# Altium schematic symbol library FlexV1.SchLib: 43 symbols (part 1 of 2)
Pins are listed as number, name and electrical type; pins without a type are passive.

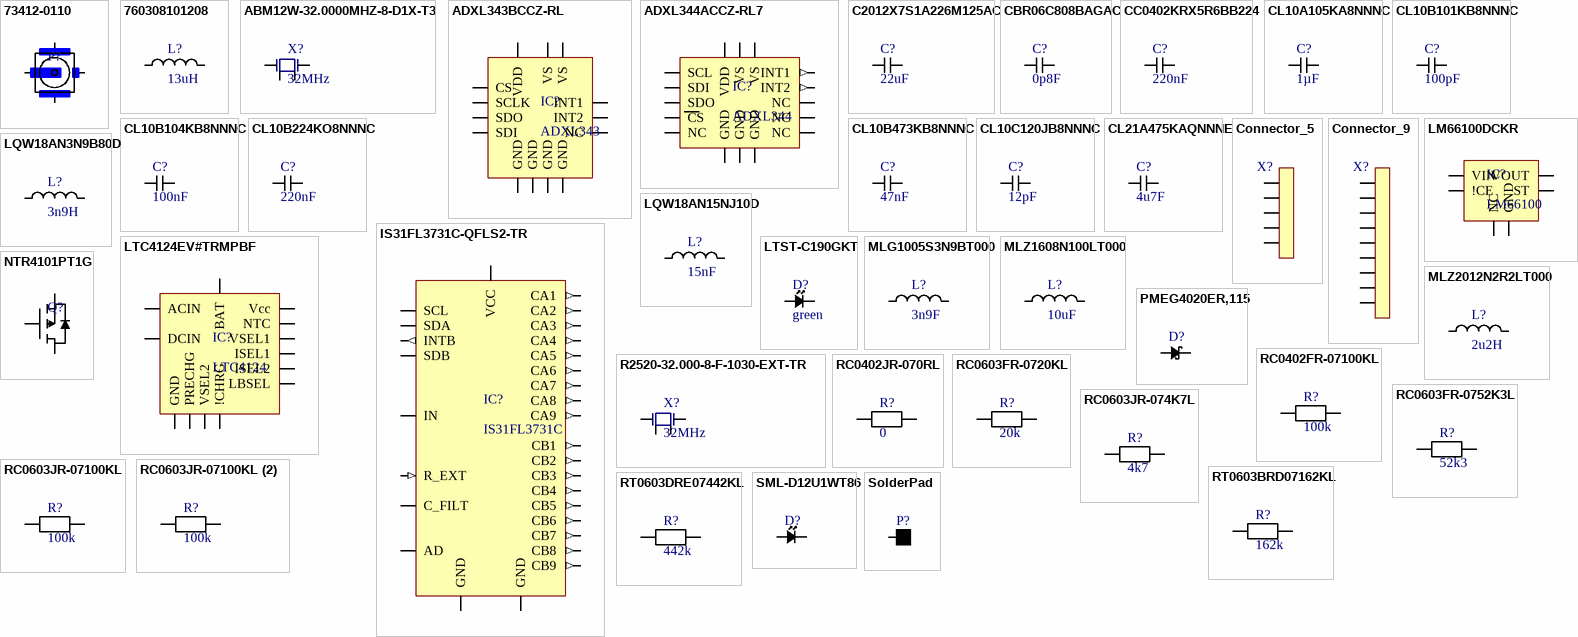
[diagram p0: symbols 73412-0110 to SolderPad]

## 73412-0110
designator P?  (value not drawn)
MOLEX   73412-0110   RF COAXIAL, MICROCOAXIAL, JACK, 50OHM; Body Material: Polymer,Liquid Crystal Polymer; Body Plating: Gold; Impedance: 50R; Voltage Rating: 60V; Frequency: 6GHz; Gender: Female; Mating Cycles: 30; Insulation Resistance: 500MR; Polarity: Standard; Manufacturer: Molex; Manufacturer Part Number: 73412-0110; RoHS: Yes; Category: RF / Coaxial Connectors; Stock 1: 79788; Pricing 1: 1=0,77000, 10=0,72200, 25=0,64960, 50=0,57740, 100=0,55330, 250=0,50520, 500=0,48114, 1000=0,39694, 2500=0,36086 (USD); Mount: Surface Mount,Through Hole,PCB; Contact Material: Bronze,Brass; Contact Plating: Gold; Material: Bronze; Min Operating Temperature: -40°C; Max Operating Temperature: 90°C; Package Quantity: 5000; Packaging: Tape and Reel; Max Frequency: 6GHz; Termination: Solder; Connector Type: Coaxial; Voltage Rating (AC): 60V; Orientation: Straight; Radiation Hardening: No; REACH SVHC: Unknown; Halogen Free: Low Halogen; Lead Free: Lead Free; ComponentLink1URL: https://datasheet.ciiva.com/30219/250360734120110-rf-coax-nectors-30219809.pdf?src-supplier=Onlinecomponents.com; ComponentLink1Description: https://datasheet.ciiva.com/30219/250360734120110-rf-coax-nectors-30219809.pdf?src-supplier=Onlinecomponents.com; ComponentLink2URL: https://datasheet.ciiva.com/16653/0734120110-rf-coax-connectors-16653186.pdf?src-supplier=Avnet+Europe; ComponentLink2Description: https://datasheet.ciiva.com/16653/0734120110-rf-coax-connectors-16653186.pdf?src-supplier=Avnet+Europe; ComponentLink3URL: https://datasheet.ciiva.com/11762/0900766b80dfdeb4-11762356.pdf?src-supplier=RSComponents; ComponentLink3Description: https://datasheet.ciiva.com/11762/0900766b80dfdeb4-11762356.pdf?src-supplier=RSComponents; ComponentLink4URL: https://datasheet.ciiva.com/22773/1841262-22773140.pdf?src-supplier=Farnell; ComponentLink4Description: https://datasheet.ciiva.com/22773/1841262-22773140.pdf?src-supplier=Farnell; ComponentLink5URL: https://datasheet.ciiva.com/4600/0734120110-rf-coax-connectors-173239-4600647.pdf?src-supplier=Mouser; ComponentLink5Description: https://datasheet.ciiva.com/4600/0734120110-rf-coax-connectors-173239-4600647.pdf?src-supplier=Mouser; ComponentLink6URL: https://datasheet.ciiva.com/16081/1387750734120110-rf-coax-nectors-16081145.pdf?src-supplier=Onlinecomponents.com; ComponentLink6Description: https://datasheet.ciiva.com/16081/1387750734120110-rf-coax-nectors-16081145.pdf?src-supplier=Onlinecomponents.com; ComponentLink7URL: https://datasheet.ciiva.com/46384/1808577-46384459.pdf?src-supplier=Element14; ComponentLink7Description: https://datasheet.ciiva.com/46384/1808577-46384459.pdf?src-supplier=Element14; ComponentLink8URL: https://datasheet.ciiva.com/9419/0734120110-rf-coax-connectors-9419357.pdf?src-supplier=Avnet; ComponentLink8Description: https://datasheet.ciiva.com/9419/0734120110-rf-coax-connectors-9419357.pdf?src-supplier=Avnet; Supplier Part Number 1: WM5587CT-ND; Supplier 1: Digi-Key
footprint UFL
pins: 1 Vout (power), 2 Vout (power), 3 Vout (power), 4 Vout (power)

## 760308101208
designator L?, comment 13uH
WURTH ELEKTRONIK - 760308101208 - WIRELESS POWER CHARGING COIL, 13UH, 10%; Manufacturer: Wurth Electronics; Logic Function: Receiver; Current Rating: 800mA; Saturation Current: 2A; DC Resistance (DCR): 400mR; Self Resonant Frequency: 26MHz; Resistance: 0.5R; Q Factor: 17; Supplier 1: Digi-Key; Manufacturer Part Number: 760308101208; RoHS: Yes; Stock 1: 128; Pricing 1: 1=9,86000, 50=9,31800, 100=7,88500, 250=6,81004, 500=5,73402 (USD); Min Operating Temperature: -20°C; Max Operating Temperature: 105°C; Inductance: 13uH; Tolerance: 10%; Inductance Tolerance: 10%; Packaging: Bulk; Package Quantity: 1080; Diameter: 10mm; Length: 0.39inch; Height: 0.07inch; Width: 1.68mm; REACH SVHC: Unknown; ComponentLink1URL: http://www.farnell.com/datasheets/2061864.pdf?src-supplier=Farnell; ComponentLink1Description: http://www.farnell.com/datasheets/2061864.pdf?src-supplier=Farnell; ComponentLink2URL: http://www.mouser.com/ds/2/445/760308101208-516443.pdf?src-supplier=Mouser; ComponentLink2Description: http://www.mouser.com/ds/2/445/760308101208-516443.pdf?src-supplier=Mouser; ComponentLink3URL: http://www.farnell.com/datasheets/1880947.pdf?src-supplier=Element14; ComponentLink3Description: http://www.farnell.com/datasheets/1880947.pdf?src-supplier=Element14; Supplier Part Number 1: 732-6205-ND
footprint ChargeInductorPads
pins: 1 X, 2 X

## ABM12W-32.0000MHZ-8-D1X-T3
designator X?, comment 32MHz
Iot Optimized 32MHZ 8PF Crystal; Manufacturer: Abracon; Manufacturer Part Number: ABM12W-32.0000MHZ-8-D1X-T3; Supplier 1: Digi-Key; RoHS: No; Stock 1: 1313; Pricing 1: 1=1,14000, 10=1,01200, 50=0,94600, 100=0,83600, 500=0,79200, 1000=0,66000 (USD); Supplier Part Number 1: 535-13978-1-ND
footprint ABM12W-32.0000MHZ-8-D1X-T3
pins: 1 HOT, 2 GND, 3 HOT, 4 GND

## ADXL343BCCZ-RL
designator IC?, comment ADXL343
ACCEL 2-16G I2C/SPI 14LGA; Manufacturer: Analog Devices; Manufacturer Part Number: ADXL343BCCZ-RL; Max Supply Voltage: 3.6V; Min Supply Voltage: 2V; Nominal Supply Current: 140uA; Bandwidth: 0.05Hz; -3db Bandwidth: 320Hz; Output Type: Digital; Axis: X, Y, Z; Sensitivity: 256LSB/g; Supplier 1: Digi-Key; RoHS: Yes; Category: Sensors; Stock 1: 1661; Pricing 1: 1=3,50000, 10=3,14200, 25=2,97000, 100=2,57400, 500=2,19120, 1000=1,91400 (USD); Case/Package: LGA; Number of Pins: 14; Contact Plating: Tin,Matte; Min Operating Temperature: -40°C; Max Operating Temperature: 85°C; Package Quantity: 5000; Packaging: Tape and Reel; Lead Free: Contains Lead; ComponentLink1URL: https://datasheet.ciiva.com/6484/adxl343-6484390.pdf?src-supplier=Digi-Key; ComponentLink1Description: https://datasheet.ciiva.com/6484/adxl343-6484390.pdf?src-supplier=Digi-Key; ComponentLink2URL: https://datasheet.ciiva.com/16638/adxl343-16638169.pdf?src-supplier=Avnet+Europe; ComponentLink2Description: https://datasheet.ciiva.com/16638/adxl343-16638169.pdf?src-supplier=Avnet+Europe; Supplier Part Number 1: ADXL343BCCZ-RLCT-ND
footprint ADXL343
pins: 1 VDD (power) "Digital Interface Supply Voltage.", 2 GND (power) "This pin must be connected to ground.", 3 VS "Reserved. This pin must be connected to VS or left open.", 4 GND (power) "This pin must be connected to ground.", 5 GND (power) "This pin must be connected to ground.", 6 VS (power) "Supply Voltage.", 7 CS (io) "Chip Select.", 8 INT1 (io) "Interrupt 1 Output.", 9 INT2 (io) "Interrupt 2 Output.", 10 NC "Not Internally Connected.", 11 GND "Reserved. This pin must be connected to ground or left open.", 12 SDO (io) "Serial Data Output (SPI 4-Wire)/Alternate I2C Address Select (I2C).", 13 SDI (io) "Serial Data (I2C)/Serial Data Input (SPI 4-Wire)/Serial Data Input and Output (SPI 3-Wire).", 14 SCLK (io) "Serial Communications Clock. SCL is the clock for I2C, and SCLK is the clock for SPI."

## ADXL344ACCZ-RL7
designator IC?, comment ADXL344
ANALOG DEVICES - ADXL344ACCZ-RL7 - ACCELEROMETER, 3-AXIS, 16G, 16LGA; Max Supply Voltage: 2.75V; Min Supply Voltage: 1.7V; Nominal Supply Current: 140uA; Bandwidth: 0.05Hz; Interface: I2C,SPI; Output Type: SPI; Axis: X, Y, Z; Sensitivity: 256LSB/g; -3db Bandwidth: 1.6kHz; Resolution: 16b; Supplier 1: Digi-Key; Manufacturer: Analog Devices; Manufacturer Part Number: ADXL344ACCZ-RL7; RoHS: Yes; Category: Sensors; Stock 1: 3864; Pricing 1: 1=3,35000, 10=3,01100, 25=2,84640, 100=2,46680, 500=2,09990 (USD); Mount: Surface Mount; Case/Package: LGA; Number of Pins: 16; Min Operating Temperature: -40°C; Max Operating Temperature: 85°C; Packaging: Tape and Reel; Package Quantity: 1; Operating Supply Current: 140uA; REACH SVHC: No SVHC; Lead Free: Contains Lead; ComponentLink1URL: https://datasheet.ciiva.com/24006/adxl344-246084-24006369.pdf?src-supplier=Mouser; ComponentLink1Description: https://datasheet.ciiva.com/24006/adxl344-246084-24006369.pdf?src-supplier=Mouser; ComponentLink2URL: https://datasheet.ciiva.com/7622/1677405-7622117.pdf?src-supplier=Element14; ComponentLink2Description: https://datasheet.ciiva.com/7622/1677405-7622117.pdf?src-supplier=Element14; ComponentLink3URL: https://datasheet.ciiva.com/6484/adxl344-6484298.pdf?src-supplier=Digi-Key; ComponentLink3Description: https://datasheet.ciiva.com/6484/adxl344-6484298.pdf?src-supplier=Digi-Key; ComponentLink4URL: https://datasheet.ciiva.com/6484/adxl344-6484296.pdf?src-supplier=Digi-Key; ComponentLink4Description: https://datasheet.ciiva.com/6484/adxl344-6484296.pdf?src-supplier=Digi-Key; ComponentLink5URL: https://datasheet.ciiva.com/6483/adxl344-6483803.pdf?src-supplier=Digi-Key; ComponentLink5Description: https://datasheet.ciiva.com/6483/adxl344-6483803.pdf?src-supplier=Digi-Key; ComponentLink6URL: https://datasheet.ciiva.com/16638/adxl344-16638172.pdf?src-supplier=Avnet+Europe; ComponentLink6Description: https://datasheet.ciiva.com/16638/adxl344-16638172.pdf?src-supplier=Avnet+Europe; Supplier Part Number 1: ADXL344ACCZ-RL7CT-ND
footprint ADXL344
pins: 1 VDD (power) "Digital Interface Supply Voltage.", 2 NC "Not Internally Connected.", 3 NC "Not Internally Connected.", 4 SCL "Serial Communications Clock.", 5 NC "Not Internally Connected.", 6 SDI "Serial Data (I2C)/Serial Data Input (SPI 4-Wire)/Serial Data Input and Output (SPI 3-Wire).", 7 SDO "Serial Data Output (SPI 4-Wire)/Alternate I2C Address Select (I2C).", 8 CS "Chip Select.", 9 INT2 (out) "Interrupt 2 Output.", 10 NC "Not Internally Connected.", 11 INT1 (out) "Interrupt 1 Output.", 12 GND (power) "Must be connected to ground.", 13 GND (power) "Must be connected to ground.", 14 VS (power) "Supply Voltage.", 15 VS "Reserved. This pin must be connected to VS.", 16 GND (power) "Must be connected to ground."

## C2012X7S1A226M125AC
designator C?, comment 22uF
TDK - C2012X7S1A226M125AC - SMD Multilayer Ceramic Capacitor, 22 µF, 10 V, 0805 [2012 Metric], ± 20%, X7S, C Series TDK; Voltage Rating (DC): 10V; Supplier 1: Digi-Key; Manufacturer: TDK; Manufacturer Part Number: C2012X7S1A226M125AC; RoHS: Yes; Category: Ceramic Capacitors; Stock 1: 665121; Pricing 1: 1=0,97000, 10=0,74000, 100=0,52940, 500=0,40986, 1000=0,35294 (USD); Mount: Surface Mount; Case/Package: 0805; Weight: 0.000194oz; Case Code (Imperial): 0805; Dielectric Material: Ceramic; Case Code (Metric): 2012; Min Operating Temperature: -55°C; Max Operating Temperature: 125°C; Termination: SMD/SMT; Package Quantity: 2000; Packaging: Tape and Reel; Capacitance: 22uF; Tolerance: 20%; Voltage Rating: 10V; Dielectric: X7S; Length: 0.079inch; Height: 1.25mm; Width: 1.25mm; Thickness: 0.057inch; Lead Free: Lead Free; REACH SVHC: No SVHC; ComponentLink1URL: https://datasheet.ciiva.com/14893/tdkmlcccaprange-14893287.pdf?src-supplier=Digi-Key; ComponentLink1Description: https://datasheet.ciiva.com/14893/tdkmlcccaprange-14893287.pdf?src-supplier=Digi-Key; ComponentLink2URL: https://datasheet.ciiva.com/14893/tdkmlcccaprange-14893288.pdf?src-supplier=Digi-Key; ComponentLink2Description: https://datasheet.ciiva.com/14893/tdkmlcccaprange-14893288.pdf?src-supplier=Digi-Key; ComponentLink3URL: https://datasheet.ciiva.com/14893/tdkmlcccaprange-14893289.pdf?src-supplier=Digi-Key; ComponentLink3Description: https://datasheet.ciiva.com/14893/tdkmlcccaprange-14893289.pdf?src-supplier=Digi-Key; Supplier Part Number 1: 445-14560-1-ND
footprint C0805
pins: 1 (power), 2 (power)

## CBR06C808BAGAC
designator C?, comment 0p8F
CAP CER 0.8PF 250V C0G/NP0 0603; Manufacturer: KEMET; Manufacturer Part Number: CBR06C808BAGAC; Dielectric: C0G; Supplier 1: Digi-Key; RoHS: Yes; Category: Ceramic Capacitors; Stock 1: 2795; Pricing 1: 1=0,54000, 10=0,37200, 100=0,22310, 500=0,16736, 1000=0,14133 (USD); Mount: Surface Mount; Case/Package: 0603; Weight: 7.1E-05oz; Case Code (Metric): 1608; Case Code (Imperial): 0603; Min Operating Temperature: -55°C; Max Operating Temperature: 125°C; Voltage Rating (DC): 250V; Packaging: Tape and Reel; Package Quantity: 1; Capacitance: 0.8pF; Voltage Rating: 250V; Termination: SMD/SMT; Length: 0.063inch; Height: 0.8mm; Width: 0.031inch; Thickness: 0.034inch; ComponentLink1URL: https://datasheet.ciiva.com/6257/kem-c1030-cbr-smd-6257781.pdf?src-supplier=Digi-Key; ComponentLink1Description: https://datasheet.ciiva.com/6257/kem-c1030-cbr-smd-6257781.pdf?src-supplier=Digi-Key; ComponentLink2URL: https://datasheet.ciiva.com/6257/kem-c1030-cbr-smd-6257783.pdf?src-supplier=Digi-Key; ComponentLink2Description: https://datasheet.ciiva.com/6257/kem-c1030-cbr-smd-6257783.pdf?src-supplier=Digi-Key; Supplier Part Number 1: 399-8836-1-ND
footprint CL10B104KB8NNNC
pins: 1, 2

## CC0402KRX5R6BB224
designator C?, comment 220nF
CAP CER 0.22UF 10V X5R 0402; Manufacturer: Yageo; Manufacturer Part Number: CC0402KRX5R6BB224; Dielectric Material: Ceramic; Tolerance: 10%; Supplier 1: Digi-Key; Stock 1: 215238; Pricing 1: 1 = 0,10000, 10 = 0,05700, 100 = 0,02530, 500 = 0,01808, 1000 = 0,01421, 2500 = 0,01292, 5000 = 0,01188 (USD); RoHS: Yes; Mount: Surface Mount; Case/Package: 0402; Weight: 2.3E-05oz; Case Code (Metric): 1005; Case Code (Imperial): 0402; Min Operating Temperature: -55°C; Max Operating Temperature: 85°C; Package Quantity: 10000; Capacitance: 220nF; Voltage Rating: 10V; Packaging: Tape and Reel; Voltage Rating (DC): 10V; Dielectric: X5R; Termination: SMD/SMT; Composition: Ceramic; Length: 1mm; Height: 0.5mm; Width: 0.02inch; Thickness: 0.022inch; Depth: 0.5mm; Radiation Hardening: No; REACH SVHC: Unknown; Lead Free: Lead Free; Halogen Free: Halogen Free; ComponentLink1URL: https://datasheet.ciiva.com/176/mlccorderingcode-176912.pdf?src-supplier=Digi-Key; ComponentLink1Description: https://datasheet.ciiva.com/176/mlccorderingcode-176912.pdf?src-supplier=Digi-Key; ComponentLink2URL: https://datasheet.ciiva.com/176/mlccorderingcode-176913.pdf?src-supplier=Digi-Key; ComponentLink2Description: https://datasheet.ciiva.com/176/mlccorderingcode-176913.pdf?src-supplier=Digi-Key; ComponentLink3URL: https://datasheet.ciiva.com/8033/1525783-8033653.pdf?src-supplier=Element14; ComponentLink3Description: https://datasheet.ciiva.com/8033/1525783-8033653.pdf?src-supplier=Element14; ComponentLink4URL: https://datasheet.ciiva.com/16624/upy-gphc-x5r-4v-to-50v-12-16624733.pdf?src-supplier=Avnet+Europe; ComponentLink4Description: https://datasheet.ciiva.com/16624/upy-gphc-x5r-4v-to-50v-12-16624733.pdf?src-supplier=Avnet+Europe; ComponentLink5URL: https://datasheet.ciiva.com/28450/1359354-28450298.pdf?src-supplier=Element14; ComponentLink5Description: https://datasheet.ciiva.com/28450/1359354-28450298.pdf?src-supplier=Element14; ComponentLink6URL: https://datasheet.ciiva.com/176/mlccorderingcode-176911.pdf?src-supplier=Digi-Key; ComponentLink6Description: https://datasheet.ciiva.com/176/mlccorderingcode-176911.pdf?src-supplier=Digi-Key; Supplier Part Number 1: 311-1421-1-ND
footprint RC0402
pins: 1 (power), 2 (power)

## CL10A105KA8NNNC
designator C?, comment 1µF
Cap Ceramic 1uF 25V X5R 10% Pad SMD 0603 85°C T/R; Manufacturer: Samsung; Manufacturer Part Number: CL10A105KA8NNNC; Supplier 1: Digi-Key; Stock 1: 5127242; Pricing 1: 1 = 0,100000, 10 = 0,041000, 100 = 0,018500, 500 = 0,013200, 1000 = 0,010370 (USD); RoHS: Yes; Mount: Surface Mount; Case/Package: 0603; Case Code (Metric): 1608; Case Code (Imperial): 0603; Material: Ceramic; Contact Plating: Tin; Min Operating Temperature: -55°C; Max Operating Temperature: 85°C; Capacitance: 1uF; Tolerance: 10%; Dielectric: X5R; Voltage: 25V; Voltage Rating (DC): 25V; Packaging: Tape and Reel; Package Quantity: 1; Voltage Rating: 25V; Length: 1.6mm; Height: 0.8mm; Depth: 0.8mm; Width: 0.031inch; Thickness: 0.035inch; Radiation Hardening: No; Lead Free: Lead Free; ComponentLink1URL: https://datasheet.ciiva.com/25801/cl10a105ka8nnnc-25801364.pdf?src-supplier=Digi-Key; ComponentLink1Description: https://datasheet.ciiva.com/25801/cl10a105ka8nnnc-25801364.pdf?src-supplier=Digi-Key; ComponentLink2URL: https://datasheet.ciiva.com/26838/getdatasheetpartid-357530-26838332.pdf?src-supplier=Verical; ComponentLink2Description: https://datasheet.ciiva.com/26838/getdatasheetpartid-357530-26838332.pdf?src-supplier=Verical; ComponentLink3URL: https://datasheet.ciiva.com/29198/458162-da-01-en-vs-kondensator-0603-29198475.pdf?src-supplier=Conrad; ComponentLink3Description: https://datasheet.ciiva.com/29198/458162-da-01-en-vs-kondensator-0603-29198475.pdf?src-supplier=Conrad; Supplier Part Number 1: 1276-1102-1-ND
footprint CL10B104KB8NNNC
pins: 1 (power), 2 (power)

## CL10B101KB8NNNC
designator C?, comment 100pF
CAP CER 100PF 50V X7R 0603; Manufacturer: Samsung; Manufacturer Part Number: CL10B101KB8NNNC; Tolerance: 10%; Supplier 1: Digi-Key; RoHS: Yes; Category: Ceramic Capacitors; Stock 1: 202639; Pricing 1: 1=0,10000, 10=0,05000, 100=0,02240, 500=0,01602, 1000=0,01258 (USD); Mount: Surface Mount; Case/Package: 0603; Case Code (Imperial): 0603; Case Code (Metric): 1608; Min Operating Temperature: -55°C; Max Operating Temperature: 125°C; Dielectric: X7R; Capacitance: 100pF; Packaging: Tape and Reel; Package Quantity: 1; Voltage Rating: 50V; Length: 1.6mm; Height: 0.8mm; Thickness: 0.035inch; Depth: 0.8mm; Width: 0.031inch; Radiation Hardening: No; ComponentLink1URL: https://datasheet.ciiva.com/26920/getdatasheetpartid-690677-26920180.pdf?src-supplier=Verical; ComponentLink1Description: https://datasheet.ciiva.com/26920/getdatasheetpartid-690677-26920180.pdf?src-supplier=Verical; ComponentLink2URL: https://datasheet.ciiva.com/16437/cl05b104kq5nnnc-16437324.pdf?src-supplier=Future+Electronics; ComponentLink2Description: https://datasheet.ciiva.com/16437/cl05b104kq5nnnc-16437324.pdf?src-supplier=Future+Electronics; Supplier Part Number 1: 1276-1909-1-ND
footprint CL10B104KB8NNNC
pins: 1 (power), 2 (power)

## CL10B104KB8NNNC
designator C?, comment 100nF
Capacitor: ceramic; MLCC; 100nF; 50V; X7R; ±10%; SMD; 0603; -55÷125°C; Manufacturer: Samsung; Manufacturer Part Number: CL10B104KB8NNNC; Supplier 1: Digi-Key; Stock 1: 12121642; Pricing 1: 1 = 0,10000, 10 = 0,02800, 100 = 0,01230, 500 = 0,00878, 1000 = 0,00690 (USD); RoHS: Yes; Mount: Surface Mount; Case/Package: 0603; Case Code (Metric): 1608; Case Code (Imperial): 0603; Material: Ceramic; Contact Plating: Tin; Min Operating Temperature: -55°C; Max Operating Temperature: 125°C; Tolerance: 10%; Package Quantity: 1; Packaging: Tape and Reel; Capacitance: 100nF; Dielectric: X7R; Voltage Rating: 50V; Voltage: 50V; Voltage Rating (DC): 50V; Length: 1.6mm; Height: 0.8mm; Width: 0.031inch; Depth: 0.8mm; Thickness: 0.035inch; Radiation Hardening: No; Lead Free: Lead Free; ComponentLink1URL: https://datasheet.ciiva.com/25803/cl10b104kb8nnnc-25803393.pdf?src-supplier=Digi-Key; ComponentLink1Description: https://datasheet.ciiva.com/25803/cl10b104kb8nnnc-25803393.pdf?src-supplier=Digi-Key; ComponentLink2URL: https://datasheet.ciiva.com/26838/getdatasheetpartid-89097-26838411.pdf?src-supplier=Verical; ComponentLink2Description: https://datasheet.ciiva.com/26838/getdatasheetpartid-89097-26838411.pdf?src-supplier=Verical; ComponentLink3URL: https://datasheet.ciiva.com/29198/456651-da-01-en-vs-kondensator-0605-29198839.pdf?src-supplier=Conrad; ComponentLink3Description: https://datasheet.ciiva.com/29198/456651-da-01-en-vs-kondensator-0605-29198839.pdf?src-supplier=Conrad; Supplier Part Number 1: 1276-1000-1-ND
footprint CL10B104KB8NNNC
pins: 1 (power), 2 (power)

## CL10B224KO8NNNC
designator C?, comment 220nF
Capacitor 220 nF 16 VDC PU=4000 ST, CL10B224KO8NNNC, Samsung; Material: Ceramic; Tolerance: 10%; Voltage Rating: 16V; Dielectric: X7R; Supplier 1: Digi-Key; Manufacturer: Samsung; Manufacturer Part Number: CL10B224KO8NNNC; Stock 1: 1412464; Pricing 1: 1 = 0,10000, 10 = 0,04400, 100 = 0,01970, 500 = 0,01410, 1000 = 0,01108 (USD); RoHS: Yes; Mount: Surface Mount; Case/Package: 0603; Case Code (Metric): 1608; Case Code (Imperial): 0603; Contact Plating: Tin; Min Operating Temperature: -55°C; Max Operating Temperature: 125°C; Package Quantity: 1; Packaging: Tape and Reel; Capacitance: 220nF; Voltage: 16V; Voltage Rating (DC): 16V; Length: 1.6mm; Height: 0.8mm; Width: 0.031inch; Thickness: 0.035inch; Depth: 0.8mm; Radiation Hardening: No; Lead Free: Lead Free; ComponentLink1URL: https://datasheet.ciiva.com/15195/getdatasheetpartid-359555-15195740.pdf?src-supplier=Verical; ComponentLink1Description: https://datasheet.ciiva.com/15195/getdatasheetpartid-359555-15195740.pdf?src-supplier=Verical; ComponentLink2URL: https://datasheet.ciiva.com/29198/456449-da-01-en-vs-kondensator-0603-29198983.pdf?src-supplier=Conrad; ComponentLink2Description: https://datasheet.ciiva.com/29198/456449-da-01-en-vs-kondensator-0603-29198983.pdf?src-supplier=Conrad; ComponentLink3URL: https://datasheet.ciiva.com/16426/cl05b104kq5nnnc-16426261.pdf?src-supplier=Future+Electronics; ComponentLink3Description: https://datasheet.ciiva.com/16426/cl05b104kq5nnnc-16426261.pdf?src-supplier=Future+Electronics; ComponentLink4URL: https://datasheet.ciiva.com/26310/mlcc-catalogdownload2013-eng-26310319.pdf?src-supplier=Distrelec; ComponentLink4Description: https://datasheet.ciiva.com/26310/mlcc-catalogdownload2013-eng-26310319.pdf?src-supplier=Distrelec; Supplier Part Number 1: 1276-1112-1-ND
footprint CL10B104KB8NNNC
pins: 1 (power), 2 (power)

## CL10B473KB8NNNC
designator C?, comment 47nF
CAP CER 0.047UF 50V X7R 0603; Manufacturer: Samsung; Manufacturer Part Number: CL10B473KB8NNNC; Material: Ceramic; Dielectric: Y5V; Tolerance: 10%; Supplier 1: Digi-Key; RoHS: Yes; Category: Ceramic Capacitors; Stock 1: 49161; Pricing 1: 1=0,10000, 10=0,04200, 100=0,01860, 500=0,01328, 1000=0,01044 (USD); Mount: Surface Mount; Case/Package: 0603; Contact Plating: Tin; Case Code (Imperial): 0603; Case Code (Metric): 1608; Min Operating Temperature: -55°C; Max Operating Temperature: 125°C; Packaging: Tape and Reel; Package Quantity: 4000; Voltage Rating (DC): 50V; Capacitance: 47nF; Voltage Rating: 50V; Voltage: 50V; Length: 1.6mm; Height: 0.8mm; Thickness: 0.035inch; Depth: 0.8mm; Width: 0.031inch; Radiation Hardening: No; Lead Free: Lead Free; ComponentLink1URL: https://datasheet.ciiva.com/25802/cl10b473kb8nnnc-25802915.pdf?src-supplier=Digi-Key; ComponentLink1Description: https://datasheet.ciiva.com/25802/cl10b473kb8nnnc-25802915.pdf?src-supplier=Digi-Key; ComponentLink2URL: https://datasheet.ciiva.com/15216/getdatasheetpartid-359560-15216232.pdf?src-supplier=Verical; ComponentLink2Description: https://datasheet.ciiva.com/15216/getdatasheetpartid-359560-15216232.pdf?src-supplier=Verical; ComponentLink3URL: https://datasheet.ciiva.com/29198/456947-da-01-en-vs-kondensator-0603-29198896.pdf?src-supplier=Conrad; ComponentLink3Description: https://datasheet.ciiva.com/29198/456947-da-01-en-vs-kondensator-0603-29198896.pdf?src-supplier=Conrad; ComponentLink4URL: https://datasheet.ciiva.com/26310/mlcc-catalogdownload2013-eng-26310327.pdf?src-supplier=Distrelec; ComponentLink4Description: https://datasheet.ciiva.com/26310/mlcc-catalogdownload2013-eng-26310327.pdf?src-supplier=Distrelec; ComponentLink5URL: https://datasheet.ciiva.com/20173/71-0317-20173339.pdf?src-supplier=Rapid+Electronics; ComponentLink5Description: https://datasheet.ciiva.com/20173/71-0317-20173339.pdf?src-supplier=Rapid+Electronics; Supplier Part Number 1: 1276-1063-1-ND
footprint RC0603
pins: 1 (power), 2 (power)

## CL10C120JB8NNNC
designator C?, comment 12pF
Cap Ceramic 12pF 50VDC C0G 5% SMD 0603 Paper T/R; Manufacturer: Samsung; Manufacturer Part Number: CL10C120JB8NNNC; Voltage: 50V; Temperature Coefficient: 300ppm/°C; Supplier 1: Digi-Key; RoHS: Yes; Category: Ceramic Capacitors; Stock 1: 106067; Pricing 1: 1=0,10000, 10=0,04000, 100=0,01780, 500=0,01274, 1000=0,01001 (USD); Mount: Surface Mount; Case/Package: 0603; Case Code (Metric): 1608; Case Code (Imperial): 0603; Material: Ceramic; Contact Plating: Tin; Min Operating Temperature: -55°C; Max Operating Temperature: 125°C; Tolerance: 5%; Capacitance: 12pF; Dielectric: C0G; Voltage Rating (DC): 50V; Voltage Rating: 50V; Package Quantity: 1; Packaging: Tape and Reel; Length: 1.6mm; Height: 0.8mm; Depth: 0.8mm; Width: 0.031inch; Thickness: 0.035inch; Radiation Hardening: No; Lead Free: Lead Free; ComponentLink1URL: https://datasheet.ciiva.com/25803/cl10c120jb8nnnc-25803312.pdf?src-supplier=Digi-Key; ComponentLink1Description: https://datasheet.ciiva.com/25803/cl10c120jb8nnnc-25803312.pdf?src-supplier=Digi-Key; ComponentLink2URL: https://datasheet.ciiva.com/26838/getdatasheetpartid-640658-26838491.pdf?src-supplier=Verical; ComponentLink2Description: https://datasheet.ciiva.com/26838/getdatasheetpartid-640658-26838491.pdf?src-supplier=Verical; ComponentLink3URL: https://datasheet.ciiva.com/29198/457317-da-01-en-vs-kondensator-0603-29198780.pdf?src-supplier=Conrad; ComponentLink3Description: https://datasheet.ciiva.com/29198/457317-da-01-en-vs-kondensator-0603-29198780.pdf?src-supplier=Conrad; Supplier Part Number 1: 1276-1254-1-ND
footprint CL10B104KB8NNNC
pins: 1 (power), 2 (power)

## CL21A475KAQNNNE
designator C?, comment 4u7F
SAMSUNG ELECTRO-MECHANICS - CL21A475KAQNNNE - SMD Multilayer Ceramic Capacitor, 4.7 µF, 25 V, 0805 [2012 Metric], ± 10%, X5R, CL Series; Voltage Rating (DC): 25V; Capacitance: 4.7uF; Supplier 1: Digi-Key; Manufacturer: Samsung; Manufacturer Part Number: CL21A475KAQNNNE; RoHS: Yes; Category: Ceramic Capacitors; Stock 1: 481244; Pricing 1: 1=0,14000, 10=0,10000, 100=0,04680, 500=0,03282, 1000=0,02716 (USD); Mount: Surface Mount; Case/Package: 0805; Case Code (Metric): 2012; Case Code (Imperial): 0805; Min Operating Temperature: -55°C; Max Operating Temperature: 85°C; Dielectric: X5R; Package Quantity: 1; Packaging: Tape and Reel; Tolerance: 10%; Voltage Rating: 25V; Length: 2mm; Height: 1.25mm; Thickness: 0.055inch; Depth: 1.25mm; Width: 0.049inch; Radiation Hardening: No; Lead Free: Lead Free; ComponentLink1URL: https://datasheet.ciiva.com/25798/cl21a475kaqnnne-25798882.pdf?src-supplier=Digi-Key; ComponentLink1Description: https://datasheet.ciiva.com/25798/cl21a475kaqnnne-25798882.pdf?src-supplier=Digi-Key; Supplier Part Number 1: 1276-1244-1-ND
footprint C0805
pins: 1 (power), 2 (power)

## Connector_5
designator X?  (no BOM)
footprint Connector_5
pins: 1, 2, 3, 4, 5

## Connector_9
designator X?  (no BOM)
footprint Connector_9
pins: 1, 2, 3, 4, 5, 6, 7, 8, 9

## IS31FL3731C-QFLS2-TR
designator IC?, comment IS31FL3731C
LED Lighting Drivers Audio Modulated 144 Dot LED Driver; Manufacturer: ISSI; Manufacturer Part Number: IS31FL3731C-QFLS2-TR; Number of Outputs: 18; Max Supply Voltage: 5.5V; Output Current per Channel: 34mA; Frequency: 400kHz; Max Supply Current: 2.17mA; High Level Output Current: 5nA; Dimming: Analog; Supplier 1: Digi-Key; Stock 1: 2653; Pricing 1: 1 = 2,01000, 10 = 1,81700, 25 = 1,62240, 100 = 1,46000, 250 = 1,29780, 500 = 1,13558, 1000 = 0,94091 (USD); RoHS: Yes; Mount: Surface Mount; Case/Package: QFN; Number of Pins: 28; Weight: 0.002497oz; Min Operating Temperature: -40°C; Max Operating Temperature: 85°C; Packaging: Tape and Reel; Output Current: 34mA; Low Level Output Current: 5nA; Package Quantity: 2500; ComponentLink1URL: http://www.mouser.com/ds/2/198/31FL3731-258525.pdf?src-supplier=Mouser; ComponentLink1Description: http://www.mouser.com/ds/2/198/31FL3731-258525.pdf?src-supplier=Mouser; ComponentLink2URL: http://www.issi.com/WW/pdf/Analog_Part_Decoder.pdf?src-supplier=Digi-Key; ComponentLink2Description: http://www.issi.com/WW/pdf/Analog_Part_Decoder.pdf?src-supplier=Digi-Key; Supplier Part Number 1: 706-1219-1-ND
footprint IS31FL3731 (QFN, 28-Leads, Body 4,00x4,00mm, Pitch 0,40mm, Thermal Pad 2,28x2,28mm, IPC Medium Density)
pins: 1 CA9 (out) "LED matrix A current output/input port.", 2 VCC (power) "Power supply.", 3 SDB (io) "Shutdown the chip when pull to low.", 4 INTB (out) "Interrupt output. Active low.", 5 GND (power) "Ground.", 6 R_EXT (in) "20kΩ resistance to confirm the LED current.", 7 CB1 (out) "LED matrix B current output/input port.", 8 CB2 (out) "LED matrix B current output/input port.", 9 CB3 (out) "LED matrix B current output/input port.", 10 CB4 (out) "LED matrix B current output/input port.", 11 CB5 (out) "LED matrix B current output/input port.", 12 CB6 (out) "LED matrix B current output/input port.", 13 CB7 (out) "LED matrix B current output/input port.", 14 CB8 (out) "LED matrix B current output/input port.", 15 CB9 (out) "LED matrix B current output/input port.", 16 C_FILT "Capacitor used for audio.", 17 IN "Audio input.", 18 AD "I2C address setting.", 19 SDA "I2C compatible serial data.", 20 SCL "I2C compatible serial clock.", 21 CA1 (out) "LED matrix A current output/input port.", 22 CA2 (out) "LED matrix A current output/input port.", 23 CA3 (out) "LED matrix A current output/input port.", 24 CA4 (out) "LED matrix A current output/input port.", 25 CA5 (out) "LED matrix A current output/input port.", 26 CA6 (out) "LED matrix A current output/input port.", 27 CA7 (out) "LED matrix A current output/input port.", 28 CA8 (out) "LED matrix A current output/input port.", 29 GND (power) "Center Pad"

## LM66100DCKR
designator IC?, comment LM66100
1.5-V to 5.5-V, 1.5-A, 0.5-uA IQ ideal diode with Integrated FET 6-SC70 -40 to 105; Manufacturer: Texas Instruments; Manufacturer Part Number: LM66100DCKR; Supplier 1: Digi-Key; RoHS: No; Category: Integrated Circuits (ICs); Stock 1: 5662; Pricing 1: 1=0,41000, 10=0,32900, 25=0,30120, 100=0,20300, 250=0,16800, 500=0,15400, 1000=0,11550 (USD); Supplier Part Number 1: 296-53541-1-ND
footprint LM66100
pins: 1 VIN "Device input", 2 GND "Device ground", 3 !CE "Active-low chip enable. Can be connected to VOUT for reverse current protection. Do not leave floating.", 4 NC "Not internally connected, can be tied to GND or left floating.", 5 ST "Active-low open-drain output, pulled low when the chip is disabled. Hi-Z when the chip is enabled. Connect to GND if not required.", 6 VOUT "Device output"

## LQW18AN3N9B80D
designator L?, comment 3n9H
Ind RF Chip Unshielded Wirewound 3.9nH 0.1nH 100MHz 30Q-Factor Ferrite 2.2A 0603 Paper T/R; Manufacturer: Murata; Manufacturer Part Number: LQW18AN3N9B80D; DC Resistance (DCR): 28mR; Self Resonant Frequency: 10GHz; Supplier 1: Digi-Key; RoHS: Yes; Category: Fixed Inductors; Stock 1: 1312; Pricing 1: 1=0,28000, 10=0,24800, 100=0,17080, 500=0,14594, 1000=0,11178 (USD); Mount: Surface Mount; Case/Package: 0603; Core Material: Ferrite; Min Operating Temperature: -55°C; Max Operating Temperature: 125°C; Packaging: Tape and Reel; Composition: Wirewound; Inductance: 3.9nH; Current Rating: 2.2A; Shielding: Unshielded; Test Frequency: 100MHz; Length: 0.065inch; Width: 0.039inch; Height - Seated (Max): 0.039inch; ComponentLink1URL: https://search.murata.co.jp/Ceramy/image/img/P02/JELF243A-0102.pdf?src-supplier=Digi-Key; ComponentLink1Description: https://search.murata.co.jp/Ceramy/image/img/P02/JELF243A-0102.pdf?src-supplier=Digi-Key; ComponentLink2URL: http://search.murata.co.jp/Ceramy/image/img/P02/JELF243A-0082.pdf?src-supplier=Digi-Key; ComponentLink2Description: http://search.murata.co.jp/Ceramy/image/img/P02/JELF243A-0082.pdf?src-supplier=Digi-Key; Supplier Part Number 1: 490-16894-1-ND
footprint LQW18AN3N9B80D
pins: 1 X, 2 X

## LQW18AN15NJ10D
designator L?, comment 15nF
Inductor RF Chip Wirewound 15nH 5% 100MHz 42Q-Factor 700mA 85mOhm DCR 0603 Paper T/R; Manufacturer: Murata; Manufacturer Part Number: LQW18AN15NJ10D; Core Material: Non-Magnetic; Q Factor: 42; Self Resonant Frequency: 4.5GHz; DC Resistance (DCR): 85mR; Current: 1A; Shielding: Unshielded; Supplier 1: Digi-Key; RoHS: Yes; Category: Fixed Inductors; Stock 1: 5086; Pricing 1: 1=0,19000, 10=0,17100, 100=0,11390, 500=0,09488, 1000=0,07970 (USD); Mount: Surface Mount; Case/Package: 0603; Weight: 0.000106oz; Case Code (Metric): 1608; Case Code (Imperial): 0603; Min Operating Temperature: -55°C; Max Operating Temperature: 125°C; Packaging: Tape and Reel; Composition: Wirewound; Inductance: 15nH; Test Frequency: 100MHz; Max DC Current: 700mA; Termination: SMD/SMT; DC Current: 700mA; Military Standard: Not; Package Quantity: 4000; Current Rating: 700mA; Tolerance: 5%; Length: 1.6mm; Height: 0.8mm; Height - Seated (Max): 0.039inch; Depth: 1.1mm; Width: 0.031inch; Radiation Hardening: No; ComponentLink1URL: https://datasheet.ciiva.com/11801/0900766b80a002db-11801459.pdf?src-supplier=RSComponents; ComponentLink1Description: https://datasheet.ciiva.com/11801/0900766b80a002db-11801459.pdf?src-supplier=RSComponents; ComponentLink2URL: https://datasheet.ciiva.com/6705/l0075s0080lqw18a-10-6705463.pdf?src-supplier=Digi-Key; ComponentLink2Description: https://datasheet.ciiva.com/6705/l0075s0080lqw18a-10-6705463.pdf?src-supplier=Digi-Key; ComponentLink3URL: https://datasheet.ciiva.com/17247/l0075s0080lqw18a-10-17247742.pdf?src-supplier=Avnet+Europe; ComponentLink3Description: https://datasheet.ciiva.com/17247/l0075s0080lqw18a-10-17247742.pdf?src-supplier=Avnet+Europe; Supplier Part Number 1: 490-6867-1-ND
footprint RC0603
pins: 1 X, 2 X

## LTC4124EV#TRMPBF
designator IC?, comment LTC4124
Linear Battery Charger Li-Ion 100mA 4V/4.1V/4.2V/4.35V 12-Pin LQFN EP Reel; Manufacturer: Analog Devices; Manufacturer Part Number: LTC4124EV#TRMPBF; Supplier 1: Digi-Key; RoHS: No; Category: Battery Management; Stock 1: 697; Pricing 1: 1=6,61000, 25=3,66000, 100=3,65400 (USD); Supplier Part Number 1: LTC4124EV#TRMPBFCT-ND
footprint LTC4124
pins: 1 Vcc, 2 !CHRG, 3 PRECHG, 4 VSEL1, 5 VSEL2, 6 ISEL1, 7 ISEL2, 8 LBSEL, 9 NTC, 10 BAT, 11 ACIN, 12 DCIN, 13 GND

## LTST-C190GKT
designator D?, comment green
LED,  LTST-C190GKT; Manufacturer: Vishay Lite-On; Lens Color: Colorless; Luminous Intensity: 6mcd; Forward Voltage: 2.1V; Viewing Angle: 130°; Lens Style: Clear,Diffused,Colorless,Rectangular; Forward Current: 30mA; Power Rating: 100mW; Dominant Wavelength: 569nm; Test Current: 10mA; Lens Transparency: Clear; Number of Elements: 1; Reverse Voltage: 5V; Wavelength: 565nm; Voltage: 2V; Supplier 1: Digi-Key; Manufacturer Part Number: LTST-C190GKT; RoHS: Yes; Category: LEDs; Stock 1: 179506; Pricing 1: 1=0,24000, 10=0,17900, 100=0,08460, 500=0,05640, 1000=0,04418 (USD); Mount: Surface Mount; Case/Package: 0603; Number of Pins: 2; Color: Green; Case Code (Metric): 1608; Case Code (Imperial): 0603; Min Operating Temperature: -55°C; Max Operating Temperature: 85°C; Package Quantity: 1; Packaging: Tape and Reel; Illumination Color: Green; Power Dissipation: 100mW; Number of LEDs: 1; Length: 1.6mm; Height: 0.8mm; Width: 0.8mm; Depth: 0.8mm; Radiation Hardening: No; Lead Free: Lead Free; ComponentLink1URL: https://datasheet.ciiva.com/11775/0900766b80dc02a6-11775616.pdf?src-supplier=RSComponents; ComponentLink1Description: https://datasheet.ciiva.com/11775/0900766b80dc02a6-11775616.pdf?src-supplier=RSComponents; ComponentLink2URL: https://datasheet.ciiva.com/16392/lite-on20ltst-c190gkt-16392818.pdf?src-supplier=Future+Electronics; ComponentLink2Description: https://datasheet.ciiva.com/16392/lite-on20ltst-c190gkt-16392818.pdf?src-supplier=Future+Electronics; ComponentLink3URL: https://datasheet.ciiva.com/12403/lite-on-ltst-c190gkt-187204-12403884.pdf?src-supplier=Mouser; ComponentLink3Description: https://datasheet.ciiva.com/12403/lite-on-ltst-c190gkt-187204-12403884.pdf?src-supplier=Mouser; ComponentLink4URL: https://datasheet.ciiva.com/2109/ltst-c190gkt-2109985.pdf?src-supplier=Digi-Key; ComponentLink4Description: https://datasheet.ciiva.com/2109/ltst-c190gkt-2109985.pdf?src-supplier=Digi-Key; ComponentLink5URL: https://datasheet.ciiva.com/2109/ltst-c190gkt-2109987.pdf?src-supplier=Digi-Key; ComponentLink5Description: https://datasheet.ciiva.com/2109/ltst-c190gkt-2109987.pdf?src-supplier=Digi-Key; ComponentLink6URL: https://datasheet.ciiva.com/2109/ltst-c190gkt-2109986.pdf?src-supplier=Digi-Key; ComponentLink6Description: https://datasheet.ciiva.com/2109/ltst-c190gkt-2109986.pdf?src-supplier=Digi-Key; Supplier Part Number 1: 160-1183-1-ND
footprint LTST-C190EKT
pins: A, K

## MLG1005S3N9BT000
designator L?, comment 3n9F
FIXED IND 3.9NH 700MA 200 MOHM; Manufacturer: TDK; Manufacturer Part Number: MLG1005S3N9BT000; Core Material: Non-Magnetic,Ceramic; Shielding: Unshielded; DC Resistance (DCR): 200mR; Q Factor: 8; Self Resonant Frequency: 5GHz; Test Frequency: 100MHz; Supplier 1: Digi-Key; RoHS: Yes; Category: Fixed Inductors; Stock 1: 6427; Pricing 1: 1=0,10000, 10=0,06000, 100=0,03970, 500=0,03308, 1000=0,02778, 2500=0,02382 (USD); Mount: Surface Mount; Case/Package: 0402; Weight: 2.3E-05oz; Case Code (Imperial): 0402; Case Code (Metric): 1005; Min Operating Temperature: -55°C; Max Operating Temperature: 125°C; Package Quantity: 10000; Packaging: Tape and Reel; Current Rating: 700mA; Termination: SMD/SMT; Max DC Current: 700mA; Inductance: 3.9nH; Length: 0.039inch; Height: 0.5mm; Width: 0.02inch; Height - Seated (Max): 0.022inch; Lead Free: Lead Free; ComponentLink1URL: https://datasheet.ciiva.com/29696/inductor-commercial-high-frequency-mlg-en-29696197.pdf?src-supplier=Digi-Key; ComponentLink1Description: https://datasheet.ciiva.com/29696/inductor-commercial-high-frequency-mlg-en-29696197.pdf?src-supplier=Digi-Key; Supplier Part Number 1: 445-16302-1-ND
pins: 1 X, 2 X

## MLZ1608N100LT000
designator L?, comment 10uF
Inductor Power Shielded Multi-Layer 10uH 20% 2MHz Ferrite 0.06A 0.78Ohm DCR 0603 T/R; Manufacturer: TDK; Manufacturer Part Number: MLZ1608N100LT000; DC Resistance (DCR): 780mR; Self Resonant Frequency: 50MHz; Current Rating: 300mA; Saturation Current: 60mA; Supplier 1: Digi-Key; RoHS: Yes; Category: Fixed Inductors; Stock 1: 163600; Pricing 1: 1=0,17000, 10=0,15500, 100=0,10350, 500=0,08626, 1000=0,07245 (USD); Mount: Surface Mount; Case/Package: 0603; Case Code (Imperial): 0603; Case Code (Metric): 1608; Core Material: Ferrite; Min Operating Temperature: -55°C; Max Operating Temperature: 125°C; Inductance: 10uH; Test Frequency: 2MHz; Package Quantity: 4000; Packaging: Tape and Reel; Tolerance: 20%; Shielding: Shielded; Length: 0.063inch; Height - Seated (Max): 0.037inch; Width: 0.031inch; Lead Free: Lead Free; ComponentLink1URL: https://datasheet.ciiva.com/29698/inductor-commercial-decoupling-mlz-en-29698853.pdf?src-supplier=Digi-Key; ComponentLink1Description: https://datasheet.ciiva.com/29698/inductor-commercial-decoupling-mlz-en-29698853.pdf?src-supplier=Digi-Key; ComponentLink2URL: https://datasheet.ciiva.com/29698/inductor-commercial-decoupling-mlz-en-29698854.pdf?src-supplier=Digi-Key; ComponentLink2Description: https://datasheet.ciiva.com/29698/inductor-commercial-decoupling-mlz-en-29698854.pdf?src-supplier=Digi-Key; ComponentLink3URL: https://datasheet.ciiva.com/29698/inductor-commercial-decoupling-mlz-en-29698855.pdf?src-supplier=Digi-Key; ComponentLink3Description: https://datasheet.ciiva.com/29698/inductor-commercial-decoupling-mlz-en-29698855.pdf?src-supplier=Digi-Key; Supplier Part Number 1: 445-6755-1-ND
footprint RC0603
pins: 1 X, 2 X

## MLZ2012N2R2LT000
designator L?, comment 2u2H
Inductor Power Shielded Multi-Layer 2.2uH 20% 2MHz Ferrite 0.8A 0.156Ohm DCR 0805 T/R; Manufacturer: TDK; Manufacturer Part Number: MLZ2012N2R2LT000; DC Resistance (DCR): 156mR; Self Resonant Frequency: 120MHz; Current Rating: 800mA; Saturation Current: 170mA; Supplier 1: Digi-Key; RoHS: Yes; Category: Fixed Inductors; Stock 1: 10911; Pricing 1: 1=0,14000, 10=0,12900, 100=0,08630, 500=0,07188, 1000=0,06038 (USD); Mount: Surface Mount; Case/Package: 0805; Core Material: Ferrite; Case Code (Metric): 2012; Case Code (Imperial): 0805; Min Operating Temperature: -55°C; Max Operating Temperature: 125°C; Inductance: 2.2uH; Test Frequency: 2MHz; Package Quantity: 1; Packaging: Tape and Reel; Tolerance: 20%; Shielding: Shielded; Length: 0.079inch; Height - Seated (Max): 0.041inch; Width: 0.049inch; ComponentLink1URL: https://datasheet.ciiva.com/29698/inductor-commercial-decoupling-mlz-en-29698918.pdf?src-supplier=Digi-Key; ComponentLink1Description: https://datasheet.ciiva.com/29698/inductor-commercial-decoupling-mlz-en-29698918.pdf?src-supplier=Digi-Key; ComponentLink2URL: https://datasheet.ciiva.com/29698/inductor-commercial-decoupling-mlz-en-29698919.pdf?src-supplier=Digi-Key; ComponentLink2Description: https://datasheet.ciiva.com/29698/inductor-commercial-decoupling-mlz-en-29698919.pdf?src-supplier=Digi-Key; ComponentLink3URL: https://datasheet.ciiva.com/29698/inductor-commercial-decoupling-mlz-en-29698920.pdf?src-supplier=Digi-Key; ComponentLink3Description: https://datasheet.ciiva.com/29698/inductor-commercial-decoupling-mlz-en-29698920.pdf?src-supplier=Digi-Key; Supplier Part Number 1: 445-6758-1-ND
footprint C0805
pins: 1 X, 2 X

## NTR4101PT1G
designator Q?  (value not drawn)
ON SEMICONDUCTOR - NTR4101PT1G - MOSFET Transistor, P Channel, 3.2 A, -20 V, 0.07 ohm, -4.5 V, -720 mV; Nominal Vgs: -720mV; Input Capacitance: 675pF; Number of Elements: 1; Max Power Dissipation: 730mW; Rise Time: 12.6ns; Rds On Max: 85mR; Drain to Source Voltage (Vdss): 20V; Continuous Drain Current (ID): -3.2A; Drain to Source Resistance: 112mR; Turn-Off Delay Time: 30.2ns; Turn-On Delay Time: 7.5ns; Element Configuration: Single; Drain to Source Breakdown Voltage: -20V; Gate to Source Voltage (Vgs): 8V; On-State Resistance: 70MR; Supplier 1: Digi-Key; Manufacturer: ON Semiconductor; Manufacturer Part Number: NTR4101PT1G; RoHS: Yes; Category: MOSFETs; Stock 1: 88776; Pricing 1: 1=0,38000, 10=0,28000, 25=0,24520, 100=0,13300, 250=0,13232, 500=0,10850, 1000=0,08050 (USD); Case/Package: SOT-23-3; Number of Pins: 3; Contact Plating: Tin,Matte; Min Operating Temperature: -55°C; Max Operating Temperature: 150°C; Package Quantity: 1; Packaging: Tape and Reel; Fall Time: 12.6ns; Power Dissipation: 730mW; Threshold Voltage: -720mV; Voltage Rating (DC): -20V; Current Rating: -3.2A; Length: 2.9mm; Height: 0.94mm; Width: 1.3mm; Radiation Hardening: No; REACH SVHC: No SVHC; Lead Free: Lead Free; ComponentLink1URL: https://datasheet.ciiva.com/22641/1708314-22641689.pdf?src-supplier=Element14; ComponentLink1Description: https://datasheet.ciiva.com/22641/1708314-22641689.pdf?src-supplier=Element14; ComponentLink2URL: https://datasheet.ciiva.com/17009/0900766b80dad822-17009068.pdf?src-supplier=Allied+Electronics; ComponentLink2Description: https://datasheet.ciiva.com/17009/0900766b80dad822-17009068.pdf?src-supplier=Allied+Electronics; ComponentLink3URL: https://datasheet.ciiva.com/34303/2017033-34303870.pdf?src-supplier=Jameco; ComponentLink3Description: https://datasheet.ciiva.com/34303/2017033-34303870.pdf?src-supplier=Jameco; ComponentLink4URL: https://datasheet.ciiva.com/936/ntr4101p-d-936839.pdf?src-supplier=Digi-Key; ComponentLink4Description: https://datasheet.ciiva.com/936/ntr4101p-d-936839.pdf?src-supplier=Digi-Key; ComponentLink5URL: https://datasheet.ciiva.com/936/ntr4101p-d-936840.pdf?src-supplier=Digi-Key; ComponentLink5Description: https://datasheet.ciiva.com/936/ntr4101p-d-936840.pdf?src-supplier=Digi-Key; ComponentLink6URL: https://datasheet.ciiva.com/936/ntr4101p-d-936841.pdf?src-supplier=Digi-Key; ComponentLink6Description: https://datasheet.ciiva.com/936/ntr4101p-d-936841.pdf?src-supplier=Digi-Key; ComponentLink7URL: https://datasheet.ciiva.com/11168/ntr4101p-d-11168185.pdf?src-supplier=Avnet; ComponentLink7Description: https://datasheet.ciiva.com/11168/ntr4101p-d-11168185.pdf?src-supplier=Avnet; ComponentLink8URL: https://datasheet.ciiva.com/16208/ntr4101p-d-16208809.pdf?src-supplier=Future+Electronics; ComponentLink8Description: https://datasheet.ciiva.com/16208/ntr4101p-d-16208809.pdf?src-supplier=Future+Electronics; ComponentLink9URL: https://datasheet.ciiva.com/8114/ntr4101p-d-8114939.pdf?src-supplier=Avnet; ComponentLink9Description: https://datasheet.ciiva.com/8114/ntr4101p-d-8114939.pdf?src-supplier=Avnet; Supplier Part Number 1: NTR4101PT1GOSCT-ND
footprint NTR4101P
pins: 1 11, 2 13, 3 12

## PMEG4020ER,115
designator D?, comment Schottky Diode  (value not drawn)
In a Pack of 50, Nexperia 40V 2A, Schottky Diode, 2-Pin SOD-123W PMEG4020ER, 115; Supplier 1: Digi-Key; Manufacturer: Nexperia; Manufacturer Part Number: PMEG4020ER,115; RoHS: No; Category: Rectifier Diodes; Stock 1: 89618; Pricing 1: 1=0,35000, 10=0,28700, 25=0,26240, 100=0,16470, 250=0,16288, 500=0,15250, 1000=0,10370 (USD); ComponentLink1URL: http://www.farnell.com/datasheets/609327.pdf?src-supplier=Farnell; ComponentLink1Description: http://www.farnell.com/datasheets/609327.pdf?src-supplier=Farnell; ComponentLink2URL: https://assets.nexperia.com/documents/data-sheet/PMEG4020ER.pdf?src-supplier=Digi-Key; ComponentLink2Description: https://assets.nexperia.com/documents/data-sheet/PMEG4020ER.pdf?src-supplier=Digi-Key; Supplier Part Number 1: 1727-5385-1-ND
footprint PMEG4020ER
pins: 1, 2

## R2520-32.000-8-F-1030-EXT-TR
designator X?, comment 32MHz
Xtal 32MHZ 8PF SMD; Manufacturer: Raltron Electronics; Manufacturer Part Number: R2520-32.000-8-F-1030-EXT-TR; Supplier 1: Digi-Key; Stock 1: 2968; Pricing 1: 1=0,68000, 10=0,59800, 50=0,55900, 100=0,49400, 500=0,46800, 1000=0,39000 (USD); ComponentLink1URL: http://datasheet.octopart.com/R2520-32.000-8-F-1030-EXT-TR-Raltron-Electronics-datasheet-137142235.pdf?src-supplier=Raltron+Electronics; ComponentLink1Description: http://datasheet.octopart.com/R2520-32.000-8-F-1030-EXT-TR-Raltron-Electronics-datasheet-137142235.pdf?src-supplier=Raltron+Electronics; ComponentLink2URL: http://datasheet.octopart.com/R2520-32.000-8-F-1030-EXT-TR-Raltron-Electronics-datasheet-140254835.pdf?src-supplier=Raltron+Electronics; ComponentLink2Description: http://datasheet.octopart.com/R2520-32.000-8-F-1030-EXT-TR-Raltron-Electronics-datasheet-140254835.pdf?src-supplier=Raltron+Electronics; Supplier Part Number 1: 2151-R2520-32.000-8-F-1030-EXT-TRCT-ND
footprint R2520-32.000-8-F-1030-EXT-TR
pins: 1 HOT, 2 GND, 3 HOT, 4 GND

## RC0402FR-07100KL
designator R?, comment 100k
Res General Purpose Thick Film 0402 100K Ohm 1% 1/16W ±100ppm/°C Molded SMD Paper T/R; Manufacturer: Yageo; Manufacturer Part Number: RC0402FR-07100KL; Resistance: 100kR; Power Rating: 63mW; Voltage Rating: 50V; Supplier 1: Digi-Key; RoHS: Yes; Category: Chip SMD Resistors; Stock 1: 15720175; Pricing 1: 1=0,10000, 10=0,01600, 100=0,00640, 1000=0,00289, 2500=0,00251, 5000=0,00207 (USD); Case/Package: 0402; Case Code (Metric): 1005; Case Code (Imperial): 0402; Min Operating Temperature: -55°C; Max Operating Temperature: 155°C; Tolerance: 1%; Packaging: Tape and Reel; Composition: Thick Film; Temperature Coefficient: 100ppm/°C; Termination: SMD/SMT; Military Standard: Not; Number of Terminations: 2; Working Voltage: 50V; Package Quantity: 1; Max Power Dissipation: 63mW; Features: Moisture Resistant; Length: 0.039inch; Height: 0.016inch; Width: 0.02inch; Depth: 0.5mm; REACH SVHC: No SVHC; Lead Free: Lead Free; ComponentLink1URL: https://datasheet.ciiva.com/11819/0900766b80c66297-11819452.pdf?src-supplier=RSComponents; ComponentLink1Description: https://datasheet.ciiva.com/11819/0900766b80c66297-11819452.pdf?src-supplier=RSComponents; ComponentLink2URL: https://datasheet.ciiva.com/2453/pyu-r-int-thick-7-2453361.pdf?src-supplier=Digi-Key; ComponentLink2Description: https://datasheet.ciiva.com/2453/pyu-r-int-thick-7-2453361.pdf?src-supplier=Digi-Key; ComponentLink3URL: https://datasheet.ciiva.com/2453/pyu-r-int-thick-7-2453362.pdf?src-supplier=Digi-Key; ComponentLink3Description: https://datasheet.ciiva.com/2453/pyu-r-int-thick-7-2453362.pdf?src-supplier=Digi-Key; ComponentLink4URL: https://datasheet.ciiva.com/2453/pyu-r-int-thick-7-2453363.pdf?src-supplier=Digi-Key; ComponentLink4Description: https://datasheet.ciiva.com/2453/pyu-r-int-thick-7-2453363.pdf?src-supplier=Digi-Key; ComponentLink5URL: https://datasheet.ciiva.com/22747/1018594-22747509.pdf?src-supplier=Element14; ComponentLink5Description: https://datasheet.ciiva.com/22747/1018594-22747509.pdf?src-supplier=Element14; ComponentLink6URL: https://datasheet.ciiva.com/15189/getdatasheetpartid-323696-15189334.pdf?src-supplier=Verical; ComponentLink6Description: https://datasheet.ciiva.com/15189/getdatasheetpartid-323696-15189334.pdf?src-supplier=Verical; ComponentLink7URL: https://datasheet.ciiva.com/12667/pyu-rc0402-51-rohs-l-6-r-12667930.pdf?src-supplier=Mouser; ComponentLink7Description: https://datasheet.ciiva.com/12667/pyu-rc0402-51-rohs-l-6-r-12667930.pdf?src-supplier=Mouser; Supplier Part Number 1: 311-100KLRCT-ND
footprint RC0402
pins: 1 (power), 2 (power)